# Altium schematic symbol library SCH - POWER - LINEAR VREG - MICROCHIP MIC94310 SOT-23-5.SchLib: 1 symbol
Pins are listed as number, name and electrical type; pins without a type are passive.

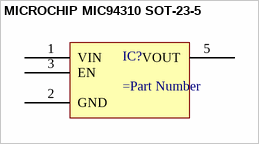
[diagram p0: symbol MICROCHIP MIC94310 SOT-23-5]

## MICROCHIP MIC94310 SOT-23-5
designator IC?
pins: 1 VIN, 2 GND, 3 EN, 5 VOUT